# Altium footprint library GA34XX-BL.PcbLib: 1 footprints
Each footprint in its own frame and in the unit in brackets; x right, y up, seen from the top. Pads: shape width x height; smd on the part's side, far side on the other; paste and mask are expansions set on the pad; w line width, h text height; cw(c..) or ccw(c..) is an arc to the next point about the centre after c.
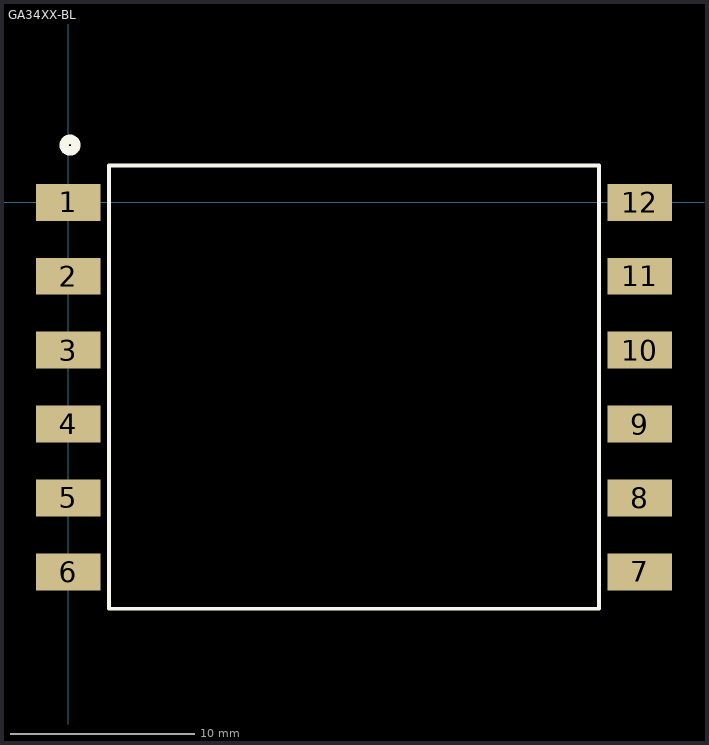
[diagram p0: the footprint, top view; thin cyan lines are the x and y axes]

## GA34XX-BL [mm]
pads (12):
  rect 3.5x2 smd: 1(0,0) 2(0,-4) 3(0,-8) 4(0,-12) 5(0,-16) 6(0,-20) 7(30.95,-20) 8(30.95,-16) 9(30.95,-12) 10(30.95,-8) 11(30.95,-4) 12(30.95,0)
Top Overlay:
  circle w0.508: c0.1,3.1 r0.316
  lines w0.2: 2.21,-22 2.21,2 14.475,2 28.74,2 28.74,-22 2.21,-22
3D body "Coilcraft-GA3459-BL.STEP": height 14, standoff 0, extent -0.83,-23.385 31.83,3.385